# Altium footprint library PCB - RF MODULE - DIGI XBEE PRO PCB ANT FOR HDR.PCBLIB: 1 footprints
Each footprint in its own frame and in the unit in brackets; x right, y up, seen from the top. Pads: shape width x height; smd on the part's side, far side on the other; paste and mask are expansions set on the pad; w line width, h text height; cw(c..) or ccw(c..) is an arc to the next point about the centre after c.
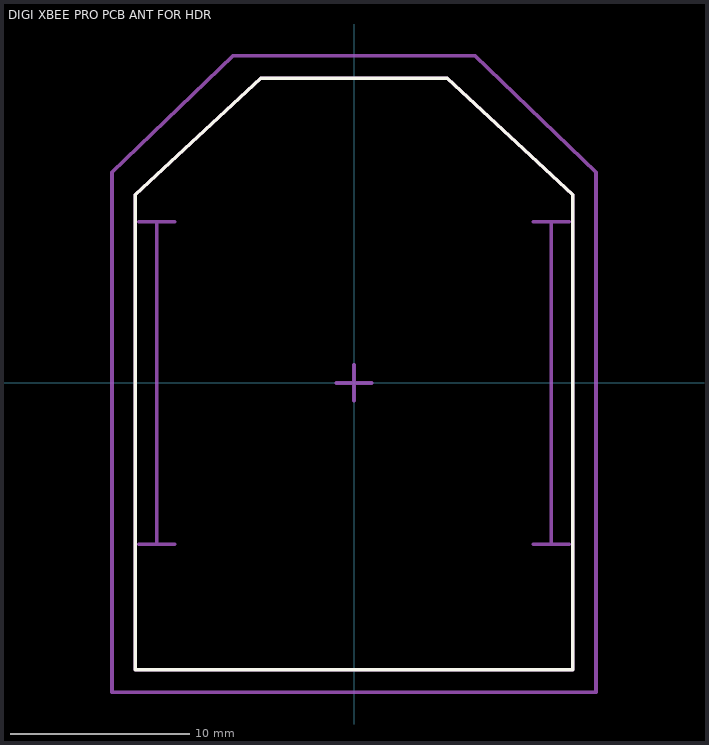
[diagram p0: the footprint, top view; thin cyan lines are the x and y axes]

## DIGI XBEE PRO PCB ANT FOR HDR [mm]
height 4
Top Overlay:
  lines w0.2: -12.2,-16 -12.2,10.5 -5.2,17 0,17 5.2,17 12.2,10.5 12.2,-16 -12.2,-16
Mechanical 1:
  lines w0.2: -12,-9 -11,-9 ; -12,9 -11,9 ; -10,-9 -11,-9 ; -10,9 -11,9 ; 10,-9 11,-9 ; 10,9 11,9 ; 12,-9 11,-9 ; 12,9 11,9 ; -11,-9 -11,9 ; 11,-9 11,9 ; -12.2,-16 12.2,-16 12.2,10.5 5.2,17 0,17 -5.2,17 -12.2,10.5 -12.2,-16
Mechanical 15:
  lines w0.2: -1,0 1,0 ; 0,-1 0,1 ; -13.5,-17.25 13.5,-17.25 13.5,11.75 6.75,18.25 -6.75,18.25 -13.5,11.75 -13.5,-17.25
3D body "XBee Pro PCB Antenna.STEP": height 3.58, standoff -4.17, extent -12.192,-15.97 12.192,16.97